# EAGLE library part 768163*G (library cts)
50V Maxumum
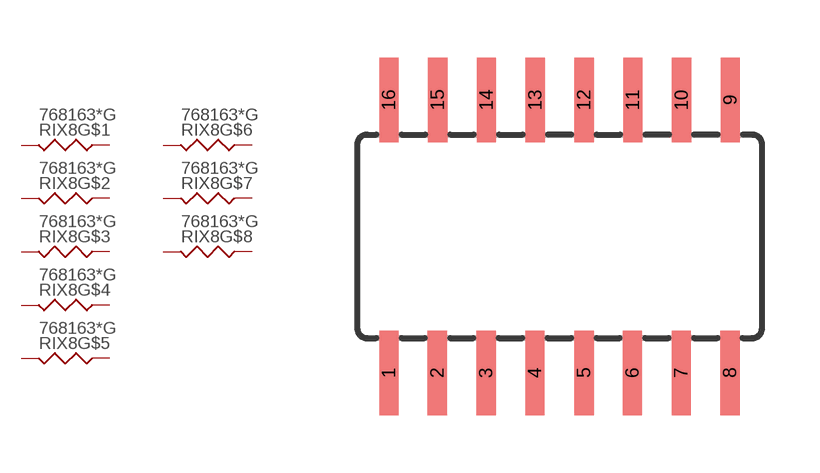
[diagram p4: symbol with the pads of SOP16; footprint SOP16]

Designator prefix RIX8; gates G$1=RESISTOR G$2=RESISTOR G$3=RESISTOR G$4=RESISTOR G$5=RESISTOR G$6=RESISTOR G$7=RESISTOR G$8=RESISTOR

## 768163G, 768163000G, 768163100G, 768163101G, 768163102G, 768163103G, 768163104G, 768163105G, 768163111G, 768163112G, 768163113G, 768163114G, 768163120G, 768163121G, 768163123G, 768163124G, 768163150G, 768163151G, 768163152G, 768163153G, 768163154G, 768163180G, 768163181G, 768163182G, 768163183G, 768163184G, 768163201G, 768163202G, 768163203G, 768163204G, 768163220G, 768163221G, 768163222G, 768163223G, 768163224G, 768163270G, 768163271G, 768163272G, 768163273G, 768163274G, 768163330G, 768163331G, 768163332G, 768163333G, 768163334G, 768163390G, 768163391G, 768163392G, 768163393G, 768163394G, 768163470G, 768163471G, 768163472G, 768163473G, 768163474G, 768163510G, 768163511G, 768163512G, 768163560G, 768163561G, 768163562G, 768163563G, 768163564G, 768163680G, 768163681G, 768163682G, 768163683G, 768163684G, 768163820G, 768163821G, 768163822G, 768163823G, 768163824G  [SOP16]
1  G$1:1  pas
2  G$2:1  pas
3  G$3:1  pas
4  G$4:1  pas
5  G$5:1  pas
6  G$6:1  pas
7  G$7:1  pas
8  G$8:1  pas
9  G$8:2  pas
10  G$7:2  pas
11  G$6:2  pas
12  G$5:2  pas
13  G$4:2  pas
14  G$3:2  pas
15  G$2:2  pas
16  G$1:2  pas

## Footprint SOP16 (pad centres in mm)
Small Outline Package
smd 0.5 x 2.2: 1 0,-0.375; 2 1.26,-0.375; 3 2.53,-0.375; 4 3.8,-0.375; 5 5.08,-0.375; 6 6.34,-0.375; 7 7.61,-0.375; 8 8.88,-0.375; 9 8.89,6.725; 10 7.62,6.725; 11 6.35,6.725; 12 5.08,6.725; 13 3.81,6.725; 14 2.54,6.725; 15 1.27,6.725; 16 0,6.725